# Altium schematic symbol library ERA-6ARW473V.SchLib: 1 symbol
Pins are listed as number, name and electrical type; pins without a type are passive.

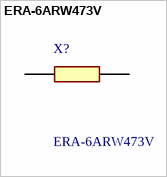
[diagram p0: symbol ERA-6ARW473V]

## ERA-6ARW473V
designator X?
Thin Film Resistors - SMD 0805 47Kohm 0.05% 10ppm AEC-Q200; Manufacturer_Name: Panasonic; Geometry.Height: 0.6mm; Mouser Part Number: 667-ERA-6ARW473V; Mouser Price/Stock: https://www.mouser.co.uk/ProductDetail/Panasonic/ERA-6ARW473V?qs=ob%252BdNz2%252BYEhPt1EjoyLPGQ%3D%3D; Manufacturer_Part_Number: ERA-6ARW473V; Datasheet Link: https://industrial.panasonic.com/cdbs/www-data/pdf/RDM0000/AOA0000C307.pdf
footprint ERA6AEB101V
pins: 1, 2